# EAGLE library part 25LC160B-I/P (library Microchip_By_element14_Batch_1)
16K SPI Bus Serial EEPROM
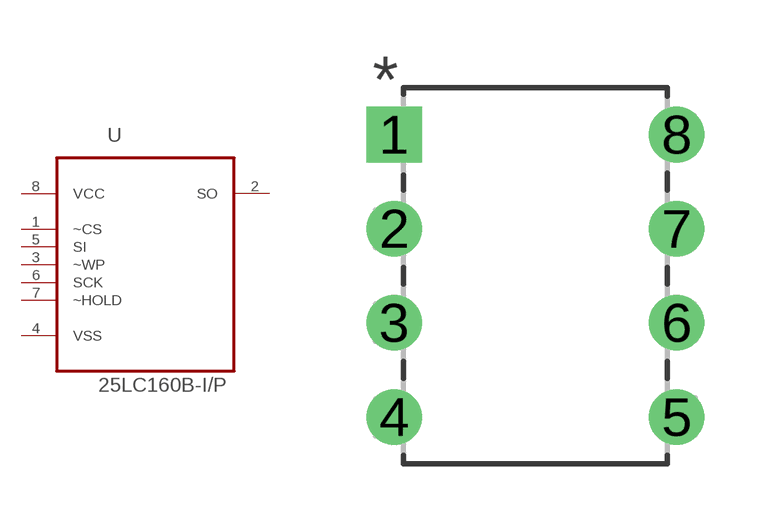
[diagram p161: symbol with the pads of DIP254P762X533-8; footprint DIP254P762X533-8]

Designator prefix -

## 25LC160B-I/P (MPN: 25LC160B-I/P; OC_FARNELL: 1556148; OC_NEWARK: 95M2099; PACKAGE: DIP-8; SUPPLIER: MICROCHIP)  [DIP254P762X533-8]
1  ~CS  in
2  SO  out
3  ~WP  in
4  VSS  pas
5  SI  in
6  SCK  in
7  ~HOLD  in
8  VCC  pwr

## Footprint DIP254P762X533-8 (pad centres in mm)
drill 0.991 square: 1 -7.62,7.62
drill 0.991: 2 -7.62,5.08; 3 -7.62,2.54; 4 -7.62,0; 5 0,0; 6 0,2.54; 7 0,5.08; 8 0,7.62